# Altium schematic symbol library 未分类MCU.SchLib: 1 symbol
Pins are listed as number, name and electrical type; pins without a type are passive.

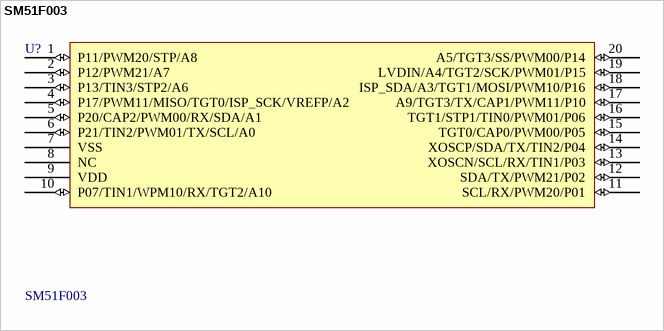
[diagram p0: symbol SM51F003]

## SM51F003
designator U?
FLASH: 16K,     RAM: 1K,  IO: 18; BOM名称: 砹矽MCU; 版权归属: 源创客; 描述: Flash: 18K,     RAM: 1K,  IO: 18; 学习资源: www.ooocke.com
footprint TSSOP20_N (6.5*6.4*1（长宽高）)
footprint TSSOP20_L (6.5*6.4*1（长宽高）)
footprint TSSOP20_M (6.5*6.4*1（长宽高）)
pins: 1 P11/PWM20/STP/A8 (io), 2 P12/PWM21/A7 (io), 3 P13/TIN3/STP2/A6 (io), 4 P17/PWM11/MISO/TGT0/ISP_SCK/VREFP/A2 (io), 5 P20/CAP2/PWM00/RX/SDA/A1 (io), 6 P21/TIN2/PWM01/TX/SCL/A0 (io), 7 VSS (power), 8 NC, 9 VDD (power), 10 P07/TIN1/WPM10/RX/TGT2/A10 (io), 11 SCL/RX/PWM20/P01 (io), 12 SDA/TX/PWM21/P02 (io), 13 XOSCN/SCL/RX/TIN1/P03 (io), 14 XOSCP/SDA/TX/TIN2/P04 (io), 15 TGT0/CAP0/PWM00/P05 (io), 16 TGT1/STP1/TIN0/PWM01/P06 (io), 17 A9/TGT3/TX/CAP1/PWM11/P10 (io), 18 ISP_SDA/A3/TGT1/MOSI/PWM10/P16 (io), 19 LVDIN/A4/TGT2/SCK/PWM01/P15 (io), 20 A5/TGT3/SS/PWM00/P14 (io)